# EAGLE library part IV-22 (library russian-vfds)
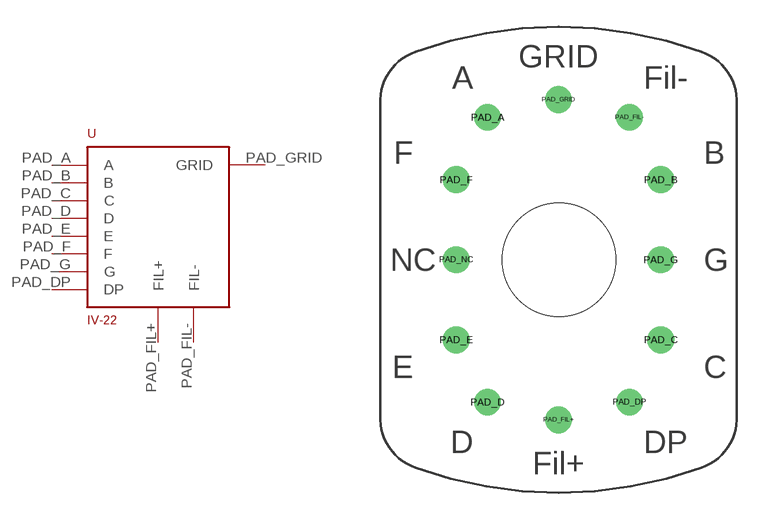
[diagram p2: symbol with the pads of IV-22; footprint IV-22]

Designator prefix -

## IV-22  [IV-22]
PAD_A  A  in
PAD_B  B  in
PAD_C  C
PAD_D  D  in
PAD_DP  DP
PAD_E  E
PAD_F  F
PAD_FIL+  FIL+
PAD_FIL-  FIL-
PAD_G  G
PAD_GRID  GRID  in

## Footprint IV-22 (pad centres in mm)
drill 1: PAD_A -3.988,8.001; PAD_B 5.74,4.496; PAD_C 5.74,-4.496; PAD_D -3.988,-8.001; PAD_DP 3.988,-8.001; PAD_E -5.74,-4.496; PAD_F -5.74,4.496; PAD_FIL+ 0,-8.992; PAD_FIL- 3.988,8.001; PAD_G 5.74,0; PAD_GRID 0,8.992; PAD_NC -5.74,0
hole 6.35 at 0.025,0